# Altium footprint library PcbLib1.PcbLib: 37 footprints (part 1 of 3)
Each footprint in its own frame and in the unit in brackets; x right, y up, seen from the top. Pads: shape width x height; smd on the part's side, far side on the other; paste and mask are expansions set on the pad; w line width, h text height; cw(c..) or ccw(c..) is an arc to the next point about the centre after c.
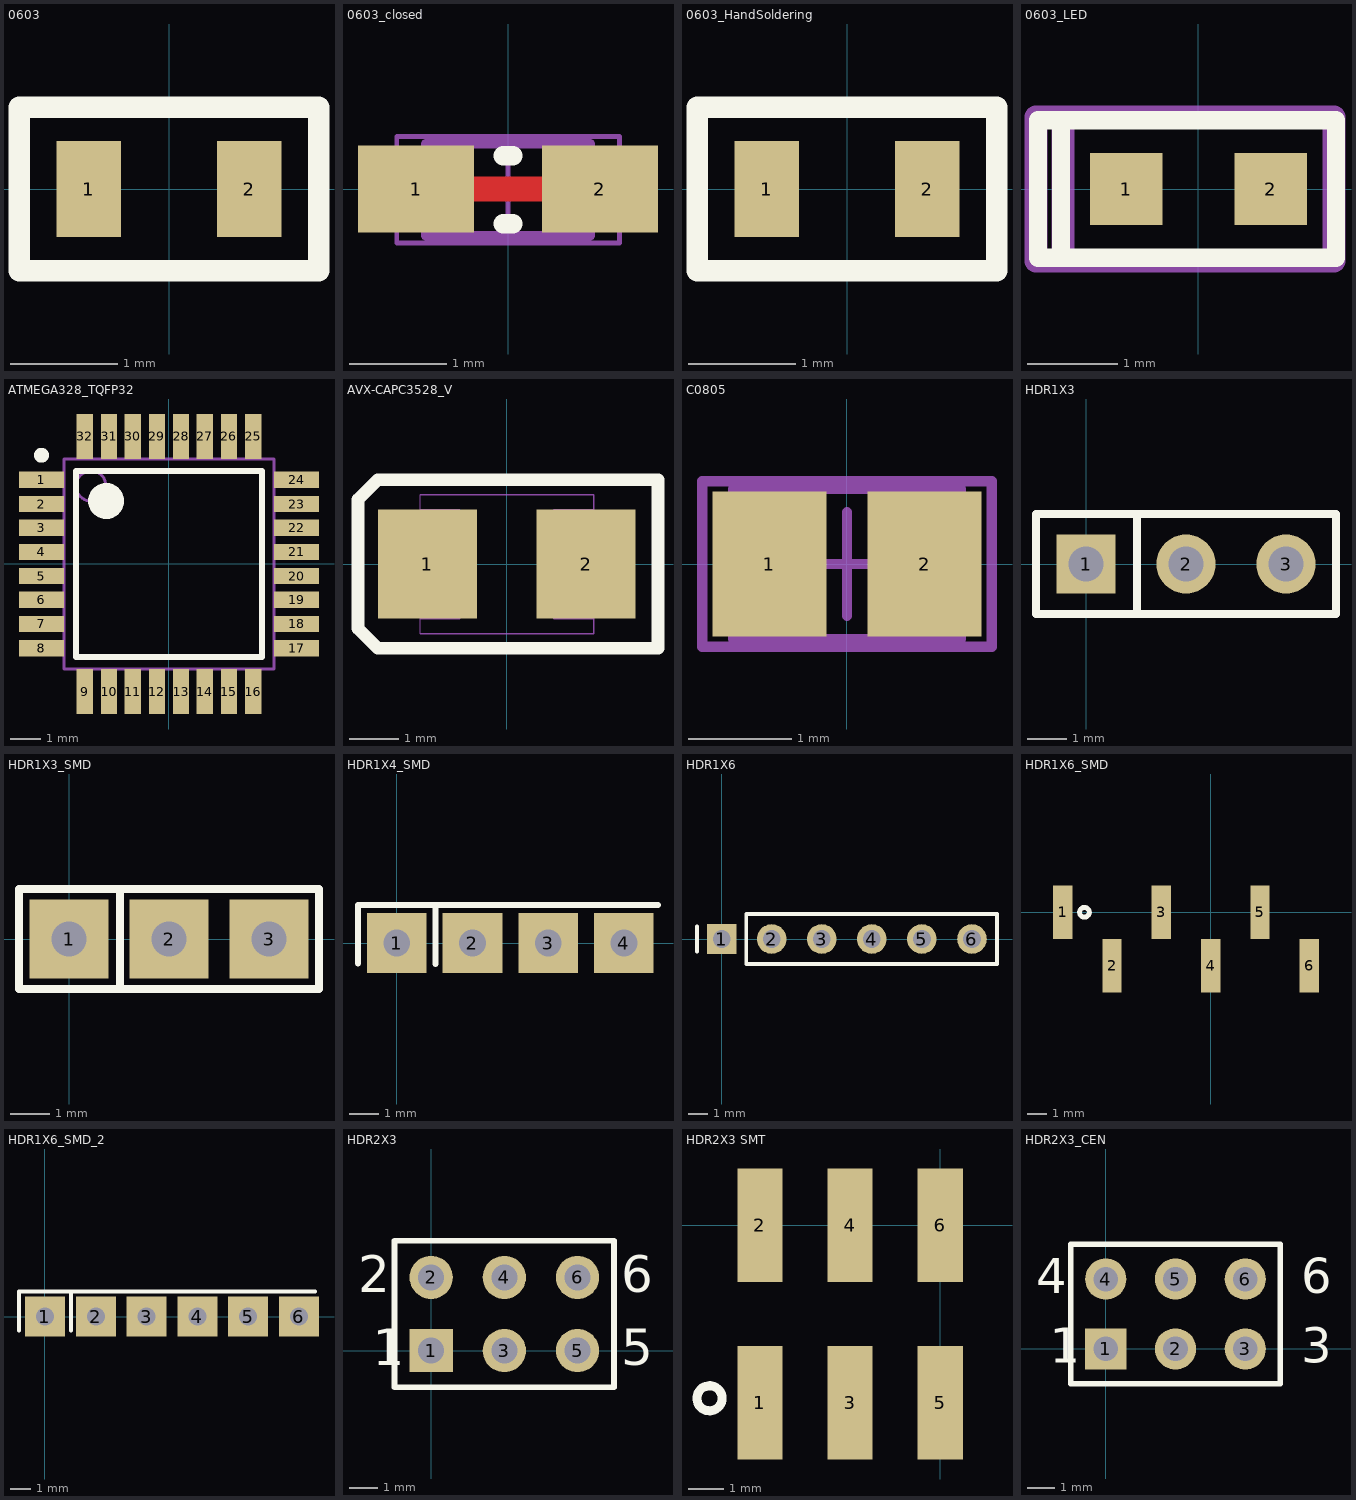
[diagram p0: the footprints below, top view; thin cyan lines are the x and y axes]

## 0603 [mm] "Chip Resistor, 2-Leads, Body 1.6x0.8mm, IPC Medium Density"
height 0.6
pads (2):
  rect 0.6x0.9 smd: 1(-0.75,0) 2(0.75,0)
Top Overlay:
  lines w0.2: -1.397,-0.762 -1.397,0.762 1.397,0.762 1.397,-0.762 -1.397,-0.762
Mechanical 29:
  lines w0.1: -1.4,-0.75 -1.4,0.75 1.4,0.75 1.4,-0.75 -1.4,-0.75
  text ".Designator" at -1.1,-0.4 h0.6
3D body "R0603.step": height 0.8, standoff 0, extent -0.8,-0.42 0.8,0.42

## 0603_closed [mm] "Chip Resistor, 2-Leads, Body 1.6x0.8mm, IPC Medium Density"
height 0.6
pads (2):
  rect 1.2x0.9 smd: 1(-0.954,0) 2(0.946,0)
Top Layer:
  lines w0.254: -0.954,0 0.946,0
Top Overlay:
  lines w0.2: -0.053,-0.358 0.047,-0.358 ; -0.053,0.342 0.047,0.342
Mechanical 13:
  lines w0.1: -0.853,-0.483 -0.853,0.467 0.847,0.467 0.847,-0.483 -0.853,-0.483
Mechanical 15:
  lines w0.05: -0.478,-0.008 0.472,-0.008 ; -0.003,-0.483 -0.003,0.467 ; -1.153,-0.558 -1.153,0.542 1.147,0.542 1.147,-0.558 -1.153,-0.558
3D body: height 0.6, standoff 0, extent 0.578,-0.482 0.847,0.467
3D body: height 0.6, standoff 0, extent -0.583,-0.482 0.578,0.467
3D body: height 0.6, standoff 0, extent -0.852,-0.482 -0.583,0.467

## 0603_HandSoldering [mm] "Chip Resistor, 2-Leads, Body 1.6x0.8mm, IPC Medium Density"
height 0.6
pads (2):
  rect 0.6x0.9 smd: 1(-0.75,0) 2(0.75,0)
Top Overlay:
  lines w0.2: -1.397,-0.762 -1.397,0.762 1.397,0.762 1.397,-0.762 -1.397,-0.762
Mechanical 29:
  lines w0.1: -1.4,-0.75 -1.4,0.75 1.4,0.75 1.4,-0.75 -1.4,-0.75
  text ".Designator" at -1.1,-0.4 h0.6
3D body "R0603.step": height 0.8, standoff 0, extent -0.8,-0.42 0.8,0.42

## 0603_LED [mm] "SMD LED, Body 1.6x0.8mm"
height 0.6
pads (2):
  rect 0.8x0.8 smd: 1(-0.8,0) 2(0.8,0)
Top Overlay:
  lines w0.2: -1.524,-0.762 -1.524,0.762 ; -1.778,-0.762 1.524,-0.762 1.524,0.762 -1.778,0.762 -1.778,-0.762
Mechanical 29:
  lines w0.254: -1.5,-0.8 -1.5,0.8 ; -1.8,-0.8 -1.8,0.8 1.5,0.8 1.5,-0.8 -1.8,-0.8
  text ".Designator" at -1.1,-0.3 h0.6
3D body "LED SMD 0603.step": height 0.65, standoff 0, extent -0.85,-0.4 0.85,0.4
3D body: height 0.66, standoff 0.5, extent -0.2,-0.2 0.2,0.2

## ATMEGA328_TQFP32 [mm] "TQFP, 32-Leads, Body 7,00x7,00mm, Pitch 0,80mm, IPC Medium Density"
height 1.2
pads (32):
  rect 1.5x0.55 smd: 1(-4.25,2.8) 2(-4.25,2) 3(-4.25,1.2) 4(-4.25,0.4) 5(-4.25,-0.4) 6(-4.25,-1.2) 7(-4.25,-2) 8(-4.25,-2.8) 17(4.25,-2.8) 18(4.25,-2) 19(4.25,-1.2) 20(4.25,-0.4) 21(4.25,0.4) 22(4.25,1.2) 23(4.25,2) 24(4.25,2.8)
  rect 0.55x1.5 smd: 9(-2.8,-4.25) 10(-2,-4.25) 11(-1.2,-4.25) 12(-0.4,-4.25) 13(0.4,-4.25) 14(1.2,-4.25) 15(2,-4.25) 16(2.8,-4.25) 25(2.8,4.25) 26(2,4.25) 27(1.2,4.25) 28(0.4,4.25) 29(-0.4,4.25) 30(-1.2,4.25) 31(-2,4.25) 32(-2.8,4.25)
Top Overlay:
  circle w0.25: c-4.25,3.625 r0.125
  circle w0.6: c-2.1,2.1 r0.3
  lines w0.2: -3.1,-3.1 -3.1,3.1 3.1,3.1 3.1,-3.1 -3.1,-3.1
Mechanical 29:
  circle w0.1: c-2.6,2.6 r0.5
  lines w0.1: -3.5,-3.5 -3.5,3.5 3.5,3.5 3.5,-3.5 -3.5,-3.5
  text ".Designator" at -1.3,-0.3 h0.7
3D body: height 1.2, standoff 0.05, extent -3.5,-3.5 3.5,3.5

## AVX-CAPC3528_V [mm] "SMT Capacitor, 2 Leads, Body 3.5x2.8mm"
pads (2):
  rect 2x2.2 smd: 1(-1.6,0) 2(1.6,0)
Top Overlay:
  lines w0.254: -3,-1.3 -3,1.3 -2.6,1.7 3.05,1.7 3.05,-1.7 -2.6,-1.7 -3,-1.3
Mechanical 7:
  lines w0.025: -1.748,-1.404 1.752,-1.404 1.752,1.396 -1.748,1.396 ; -1.748,-1.104 -0.948,-1.104 -0.948,1.096 -1.748,1.096 ; -1.748,-1.404 -1.748,1.396 ; 1.752,-1.104 0.952,-1.104 0.952,1.096 1.752,1.096
  text ".Comment" at -1.7,-2.2 h0.5
  text ".Designator" at -1.8,1.8 h0.5
3D body: height 1.9, standoff 0, extent -1.704,-1.539 1.763,1.537
3D body: height 0.3, standoff 0, extent 1.578,-0.658 1.803,0.768
3D body: height 0.3, standoff 0, extent -1.793,-0.665 -1.568,0.824

## C0805 [mm] "Chip Capacitor, Body 2.0x1.3mm, IPC High Density"
height 1.4
pads (2):
  rect 1.1x1.4 smd: 1(-0.75,0) 2(0.75,0)
Mechanical 13:
  lines w0.1: -1.1,-0.725 1.1,-0.725 1.1,0.725 -1.1,0.725 -1.1,-0.725
Mechanical 15:
  lines w0.1: -0.5,0 0.5,0 ; 0,-0.5 0,0.5 ; -1.4,-0.8 1.4,-0.8 1.4,0.8 -1.4,0.8 -1.4,-0.8
3D body: height 1.4, standoff 0, extent -1.1,-0.725 1.1,0.725

## HDR1X3 [mm] "Connector; Header; 3 Position"
pads (3):
  rect 1.5x1.5 hole 0.9: 1(0,0)
  round 1.5 hole 0.9: 2(2.54,0) 3(5.08,0)
Top Overlay:
  lines w0.2: 1.3,-1.27 1.3,1.27 ; -1.27,-1.27 6.35,-1.27 6.35,1.27 -1.27,1.27 -1.27,-1.27

## HDR1X3_SMD [mm] "Connector; Header; 3 Position"
pads (3):
  rect 2x2 hole 0.9: 1(0,0) 2(2.54,0) 3(5.08,0)
Top Overlay:
  lines w0.2: 1.3,-1.27 1.3,1.27 ; -1.27,-1.27 -1.27,1.27 6.35,1.27 6.35,-1.27 -1.27,-1.27

## HDR1X4_SMD [mm] "Connector; Header; 4 Position"
pads (4):
  rect 2x2 hole 0.9: 1(0,0) 2(2.54,0) 3(5.08,0) 4(7.62,0)
Top Overlay:
  lines w0.2: -1.3,-0.685 -1.3,1.27 8.763,1.27 ; 1.3,-0.7 1.3,1.27
3D body "User Library-Header_Male_RA_Low_2Pin.STEP": height 2.51, standoff -3, extent 3.78,-9.765 8.86,0.365
3D body "User Library-Header_Male_RA_Low_2Pin.STEP": height 2.51, standoff -3, extent -1.3,-9.765 3.78,0.365

## HDR1X6 [mm] "Connector; Header; 6 Position"
height 8
pads (6):
  rect 1.5x1.5 hole 0.9: 1(0,0)
  round 1.5 hole 0.9: 2(2.54,0) 3(5.08,0) 4(7.62,0) 5(10.16,0) 6(12.7,0)
Top Overlay:
  lines w0.2: -1.25,-0.625 -1.25,0.625 ; 1.25,-1.27 13.97,-1.27 13.97,1.27 1.25,1.27 1.25,-1.27
3D body "Header Vertical 2_54mm.STEP": height 5.94, standoff -2.94, extent 11.43,-1.29 13.97,1.25
3D body "Header Vertical 2_54mm.STEP": height 5.94, standoff -2.94, extent 8.89,-1.29 11.43,1.25
3D body "Header Vertical 2_54mm.STEP": height 5.94, standoff -2.94, extent 6.35,-1.29 8.89,1.25
3D body "Header Vertical 2_54mm.STEP": height 5.94, standoff -2.94, extent 3.81,-1.29 6.35,1.25
3D body "Header Vertical 2_54mm.STEP": height 5.94, standoff -2.94, extent 1.27,-1.29 3.81,1.25
3D body "Header Vertical 2_54mm.STEP": height 5.94, standoff -2.94, extent -1.27,-1.29 1.27,1.25

## HDR1X6_SMD [mm] "Connector; Header; 6 Position"
height 10
pads (6):
  rect 1x2.75 smd: 1(-7.62,0) 2(-5.08,-2.75) 3(-2.54,0) 4(0,-2.75) 5(2.54,0) 6(5.08,-2.75)
Top Overlay:
  circle w0.254: c-6.5,0 r0.25
3D body "header_1x4_smt.STEP": height 10.16, standoff 0, extent -8.83,-3.915 1.33,1.165
3D body "header_1x4_smt.STEP": height 10.16, standoff 0, extent -3.75,-3.915 6.41,1.165

## HDR1X6_SMD_2 [mm] "Connector; Header; 6 Position"
pads (6):
  rect 2x2 hole 0.9: 1(0,0) 2(2.54,0) 3(5.08,0) 4(7.62,0) 5(10.16,0) 6(12.7,0)
Top Overlay:
  lines w0.2: -1.3,-0.685 -1.3,1.27 13.5,1.27 ; 1.3,-0.7 1.3,1.27
3D body "User Library-Header_Male_RA_Low_2Pin.STEP": height 2.51, standoff -3, extent 8.86,-9.765 13.94,0.365
3D body "User Library-Header_Male_RA_Low_2Pin.STEP": height 2.51, standoff -3, extent 3.78,-9.765 8.86,0.365
3D body "User Library-Header_Male_RA_Low_2Pin.STEP": height 2.51, standoff -3, extent -1.3,-9.765 3.78,0.365

## HDR2X3 [mm] "Connector; Header; 3x2 Position"
pads (6):
  rect 1.5x1.5 hole 0.9: 1(0,0)
  round 1.5 hole 0.9: 2(0,2.54) 3(2.54,0) 4(2.54,2.54) 5(5.08,0) 6(5.08,2.54)
Top Overlay:
  lines w0.2: 1.482,-1.27 6.35,-1.27 ; 6.35,-1.27 6.35,3.81 -1.27,3.81 -1.27,-1.27 6.35,-1.27
  text "6" at 6.604,2.032 h1.27
  text "5" at 6.604,-0.508 h1.27
  text "2" at -2.54,2.032 h1.27
  text "1" at -2.032,-0.508 h1.27
3D body "Header Vertical 2_54mm.STEP": height 5.94, standoff -2.94, extent -1.27,1.25 1.27,3.79
3D body "Header Vertical 2_54mm.STEP": height 5.94, standoff -2.94, extent 3.81,1.27 6.35,3.81
3D body "Header Vertical 2_54mm.STEP": height 5.94, standoff -2.94, extent 1.25,1.23 3.79,3.77
3D body "Header Vertical 2_54mm.STEP": height 5.94, standoff -2.94, extent -1.27,-1.27 1.27,1.27
3D body "Header Vertical 2_54mm.STEP": height 5.94, standoff -2.94, extent 3.75,-1.25 6.29,1.29
3D body "Header Vertical 2_54mm.STEP": height 5.94, standoff -2.94, extent 1.25,-1.27 3.79,1.27

## HDR2X3 SMT [mm] "Connector; Header; 3x2 Position; SMT"
height 10
pads (6):
  rect 1.27x3.2 smd: 1(-5.08,-5) 2(-5.08,0) 3(-2.54,-5) 4(-2.54,0) 5(0,-5) 6(0,0)
Top Overlay:
  circle w0.254: c-6.5,-4.875 r0.354
3D body "header_2x3_smt.stp": height 9.52, standoff -0.08, extent -6.31,-6.25 1.31,1.25

## HDR2X3_CEN [mm] "Connector; Header; 3x2 Position"
pads (6):
  rect 1.5x1.5 hole 0.9: 1(0,0)
  round 1.5 hole 0.9: 2(2.54,0) 3(5.08,0) 4(0,2.54) 5(2.54,2.54) 6(5.08,2.54)
Top Overlay:
  lines w0.2: -1.27,-1.27 6.35,-1.27 6.35,3.81 -1.27,3.81 -1.27,-1.27
  text "6" at 7.112,2.032 h1.27
  text "3" at 7.112,-0.508 h1.27
  text "1" at -2.032,-0.508 h1.27
  text "4" at -2.54,2.032 h1.27